# EAGLE library part E73-2G4M08S1C (library E73-2G4M08S1C)
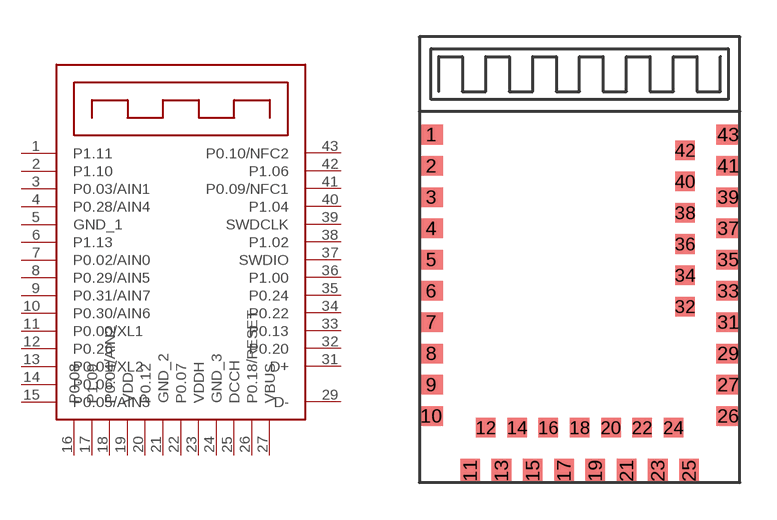
[diagram p0: symbol with the pads of E73-2G4M08S1C; footprint E73-2G4M08S1C]

Designator prefix E73-2G4M08S1C

## E73-2G4M08S1C  [E73-2G4M08S1C]
1  P1.11
2  P1.10
3  P0.03/AIN1
4  P0.28/AIN4
5  GND_1  pwr
6  P1.13
7  P0.02/AIN0
8  P0.29/AIN5
9  P0.31/AIN7
10  P0.30/AIN6
11  P0.00/XL1
12  P0.26
13  P0.01/XL2
14  P0.06
15  P0.05/AIN3
16  P0.08
17  P1.09
18  P0.04/AIN2
19  VDD  pwr
20  P0.12
21  GND_2  pwr
22  P0.07
23  VDDH
24  GND_3  pwr
25  DCCH
26  P0.18/RESET
27  VBUS
29  D-
31  D+
32  P0.20
33  P0.13
34  P0.22
35  P0.24
36  P1.00
37  SWDIO
38  P1.02
39  SWDCLK
40  P1.04
41  P0.09/NFC1
42  P1.06
43  P0.10/NFC2

## Footprint E73-2G4M08S1C (pad centres in mm)
smd 0.965 x 0.794: 1 0.476,14.129; 2 0.476,12.859; 3 0.476,11.589; 4 0.476,10.319; 5 0.476,9.049; 6 0.476,7.779; 7 0.476,6.509; 8 0.476,5.239; 9 0.476,3.969; 10 0.476,2.699; 26 12.541,2.699; 27 12.541,3.969; 29 12.541,5.239; 31 12.541,6.509; 33 12.541,7.779; 35 12.541,9.049; 37 12.541,10.319; 39 12.541,11.589; 41 12.541,12.859; 43 12.541,14.129
smd 0.794 x 0.965: 11 2.064,0.476; 13 3.334,0.476; 15 4.604,0.476; 17 5.874,0.476; 19 7.144,0.476; 21 8.414,0.476; 23 9.684,0.476; 25 10.954,0.476
smd 0.794 x 0.794: 12 2.699,2.223; 14 3.969,2.223; 16 5.239,2.223; 18 6.509,2.223; 20 7.779,2.223; 22 9.049,2.223; 24 10.319,2.223; 32 10.795,7.144; 34 10.795,8.414; 36 10.795,9.684; 38 10.795,10.954; 40 10.795,12.224; 42 10.795,13.494